# Altium schematic symbol library JumpersAndHoles.SchLib: 23 symbols
Pins are listed as number, name and electrical type; pins without a type are passive.

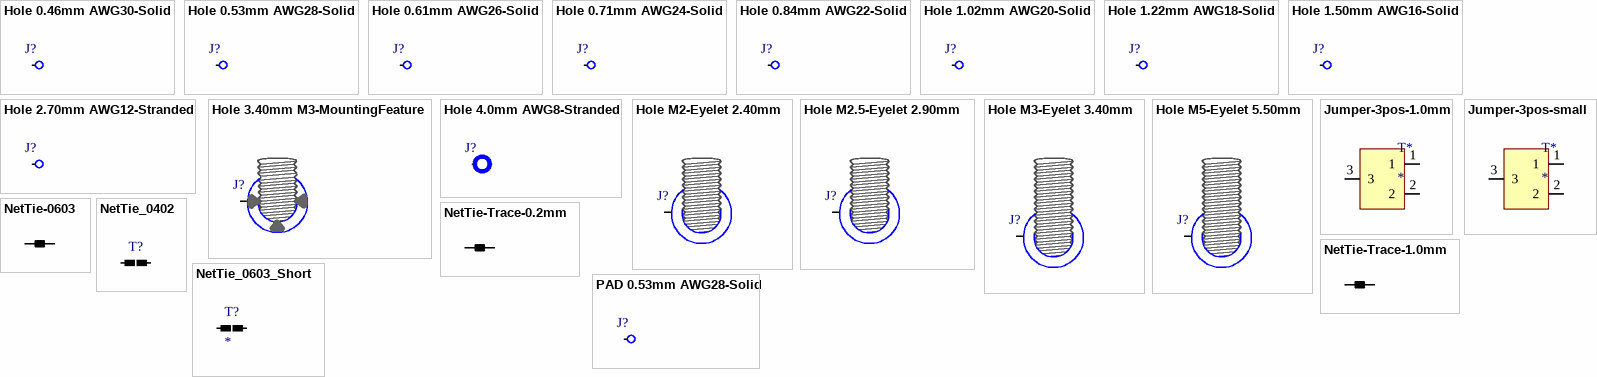
[diagram p0: symbols Hole 0.46mm AWG30-Solid to PAD 0.53mm AWG28-Solid]

## Hole 0.46mm AWG30-Solid
designator J?, comment hole  (value not drawn)  (no BOM)
Hole for 30 AWG Solid Wire; Mounted: N/A
footprint HOLE-0.46MM (Hole 0.46mm)
pins: 1

## Hole 0.53mm AWG28-Solid
designator J?, comment hole  (value not drawn)  (no BOM)
Hole for 28 AWG Solid Wire; Mounted: N/A
footprint HOLE-0.53MM (Hole 0.53mm)
pins: 1

## Hole 0.61mm AWG26-Solid
designator J?, comment hole  (value not drawn)  (no BOM)
Hole for 26 AWG Solid Wire; Mounted: N/A
footprint HOLE-0.61MM (Hole 0.61mm)
pins: 1

## Hole 0.71mm AWG24-Solid
designator J?, comment hole  (value not drawn)  (no BOM)
Hole for 24 AWG Solid Wire; Mounted: N/A
footprint HOLE-0.71MM (Hole 0.71mm)
pins: 1

## Hole 0.84mm AWG22-Solid
designator J?, comment hole  (value not drawn)  (no BOM)
Hole for 22 AWG Solid Wire; Mounted: N/A
footprint HOLE-0.84MM (Hole 0.84mm)
pins: 1

## Hole 1.02mm AWG20-Solid
designator J?, comment hole  (value not drawn)  (no BOM)
Hole for 20 AWG Solid Wire; Mounted: N/A
footprint HOLE-1.02MM (Hole 1.02mm)
pins: 1

## Hole 1.22mm AWG18-Solid
designator J?, comment hole  (value not drawn)  (no BOM)
Hole for 18 AWG Solid Wire; Mounted: N/A
footprint HOLE-1.22MM (Hole 1.22mm)
pins: 1

## Hole 1.50mm AWG16-Solid
designator J?, comment hole  (value not drawn)  (no BOM)
Hole for 16 AWG Solid Wire; Mounted: N/A
footprint HOLE-1.50MM (Hole 1.50mm)
pins: 1

## Hole 2.70mm AWG12-Stranded
designator J?, comment hole  (value not drawn)  (no BOM)
Hole for 12 AWG Stranded Wire; Mounted: N/A
footprint HOLE-2.70MM (Hole 2.70mm)
pins: 1

## Hole 3.40mm M3-MountingFeature
designator J?, comment hole  (value not drawn)  (no BOM)
Hole for M3 Bolt with 7mm pad; Mounted: N/A
footprint HOLE-3.40MM-M3-7MMEYELET-MountingFeature (Hole 3.40mm with round pad for eyelet)
pins: 1

## Hole 4.0mm AWG8-Stranded
designator J?, comment hole  (value not drawn)  (no BOM)
Hole 4.0mm for 8 AWG Stranded Wire; Mounted: N/A
footprint HOLE-4.00MM (Hole 4.00mm)
pins: 1

## Hole M2-Eyelet 2.40mm
designator J?, comment hole  (value not drawn)  (no BOM)
Hole for M2 Bolt; Mounted: N/A
footprint HOLE-2.4MM-M2 (Hole 2.4mm with round pad for eyelet)
pins: 1

## Hole M2.5-Eyelet 2.90mm
designator J?, comment hole  (value not drawn)  (no BOM)
Hole for M2.5 Bolt; Mounted: N/A
footprint HOLE-2.9MM-M2.5 (Hole 2.9mm with round pad for eyelet)
pins: 1

## Hole M3-Eyelet 3.40mm
designator J?, comment hole  (value not drawn)  (no BOM)
Hole for M3 Bolt with 8mm pad; Mounted: N/A
footprint HOLE-3.40MM-M3-8MMEYELET (Hole 3.40mm with round pad for eyelet)
pins: 1

## Hole M5-Eyelet 5.50mm
designator J?, comment hole  (value not drawn)  (no BOM)
Hole for M5 Bolt with 15mm pad; Mounted: N/A
footprint HOLE-5.50MM-M5-15MMEYELET (Hole 5.50mm with round pad for eyelet)
pins: 1

## Jumper-3pos-1.0mm
designator T*
footprint Jumper-3pos (3 pos selection)
pins: 1, 2, 3

## Jumper-3pos-small
designator T*
footprint Jumper-3pos-small (3 pos selection)
pins: 1, 2, 3

## NetTie-0603
designator T?, comment NETTIE  (value not drawn)  (net tie, no BOM)
Net Tie based on a 0603 land pattern; Mounted: N/A
footprint NetTie-0603 (NetTie based on a EIA 0603 land pattern)
pins: 1, 2

## NetTie-Trace-0.2mm
designator T?, comment NETTIE  (value not drawn)  (net tie, no BOM)
Net Tie based on a 0.2mm trace; Mounted: N/A
footprint NetTie-Trace-0.2mm (Net Tie with a 0.2mm trace)
pins: 1, 2

## NetTie-Trace-1.0mm
designator T?, comment NETTIE  (value not drawn)  (net tie, no BOM)
Net Tie based on a 1.0mm trace; Mounted: N/A
footprint NetTie-Trace-1.0mm (Net Tie with a 1.0mm trace)
pins: 1, 2

## NetTie_0402
designator T?  (value not drawn)
footprint NetTie-0402 (Metric 1005, EIA 0402 Drawn per Yageo "Chip resistors Mounting" rev 10)
pins: 1, 2

## NetTie_0603_Short
designator T?
footprint NetTie-0603-short (Net Tie with an EIA 0603 land pattern)
pins: 1, 2

## PAD 0.53mm AWG28-Solid
designator J?, comment hole  (value not drawn)  (no BOM)
PAD for 28 AWG Solid Wire; Mounted: N/A
footprint PAD-0.53MM (Hole 0.53mm)
pins: 1